# Altium integrated library National Semiconductor LDO.IntLib: 2675 symbols (part 62 of 65)
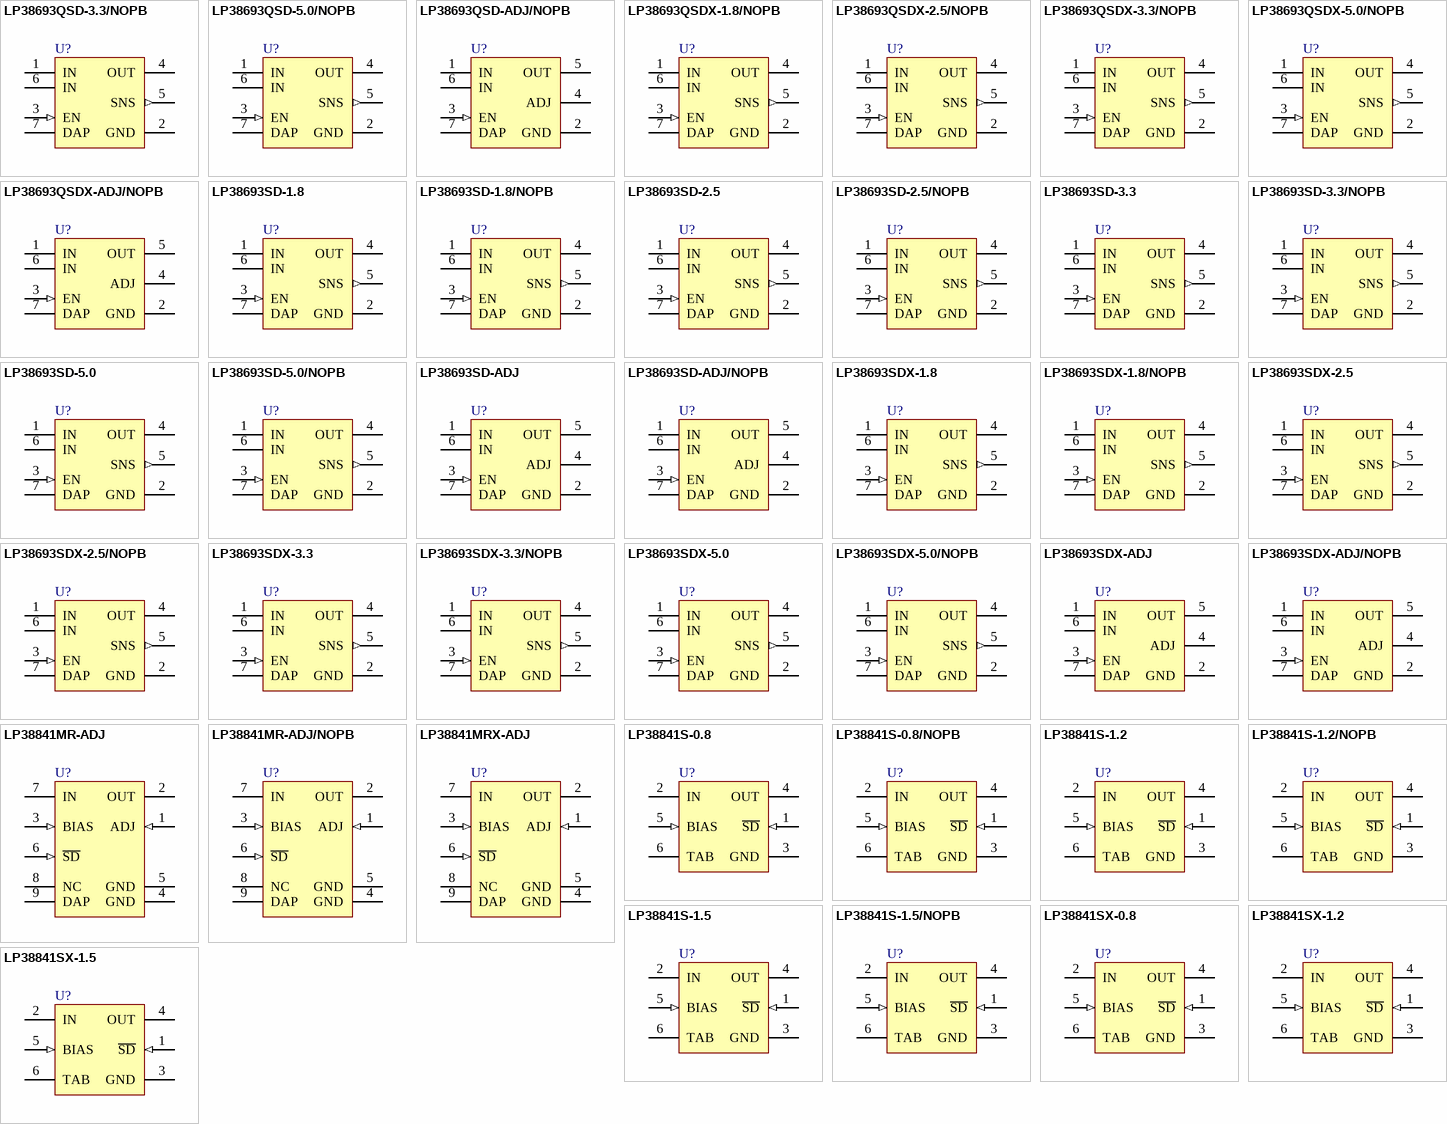
[diagram p128: symbols LP38693QSD-3.3/NOPB to LP38841SX-1.5]

## LP38841MR-ADJ
designator U?
0.8A Ultra Low Dropout Linear Regulators, 8-pin PSOP; PartNumber: LP38841MR-ADJ; Manufacturer: National Semiconductor; PackageTopMarking: NSXYTT*L38841*MRADJ; PowerWise: N; CompType: LDO IC; High-Reliability: Y; DatasheetVersion: Dec-2006; PackageVersion: revB, Dec-2007; PackageReference: MRA08B; PackageDescription: Molded, PSOP .193 x .154 x .058in, 8 Lead, .050in Pitch, Large DAP; RoHS: N; PinCount: 8; Code_JEDEC: MS-012-AA; ComponentLink1Description: Manufacturer URL; ComponentLink1URL: http://www.national.com/; ComponentLink2Description: LP38841 Datasheet; ComponentLink2URL: http://www.national.com/ds/LP/LP38841-ADJ.pdf; ComponentLink3Description: LP38841 Web Page; ComponentLink3URL: http://www.national.com/pf/LP/LP38841.html; ComponentLink4Description: MRA08B Package Page; ComponentLink4URL: http://www.national.com/packaging/folders/mra08b.html
footprint MRA08B_N (SOIC, 8-Leads, Body 4.9x3.9mm, Pitch 1.27mm, Thermal Pad, IPC Medium Density)
footprint MRA08B_L (SOIC, 8-Leads, Body 4.9x3.9mm, Pitch 1.27mm, Thermal Pad, IPC High Density)
footprint MRA08B_M (SOIC, 8-Leads, Body 4.9x3.9mm, Pitch 1.27mm, Thermal Pad, IPC Low Density)
pins: 1 ADJ (in), 2 OUT (power), 3 BIAS (in), 4 GND (power), 5 GND (power), 6 ~{SD} (in), 7 IN (power), 8 NC, 9 DAP (power)

## LP38841MR-ADJ/NOPB
designator U?
0.8A Fast-Response Ultra Low Dropout Adjustable Linear Regulators, 8-pin PSOP, Pb-Free; PartNumber: LP38841MR-ADJ/NOPB; Manufacturer: National Semiconductor; PackageTopMarking: NSXYTT*L38841*MRADJ; PowerWise: N; CompType: LDO IC; High-Reliability: Y; DatasheetVersion: Dec-2006; PackageVersion: revB, Dec-2007; PackageReference: MRA08B; PackageDescription: Molded, PSOP .193 x .154 x .058in, 8 Lead, .050in Pitch, Large DAP; RoHS: Y; PinCount: 8; Code_JEDEC: MS-012-AA; ComponentLink1Description: Manufacturer URL; ComponentLink1URL: http://www.national.com/; ComponentLink2Description: LP38841 Datasheet; ComponentLink2URL: http://www.national.com/ds/LP/LP38841-ADJ.pdf; ComponentLink3Description: LP38841 Web Page; ComponentLink3URL: http://www.national.com/pf/LP/LP38841.html; ComponentLink4Description: MRA08B Package Page; ComponentLink4URL: http://www.national.com/packaging/folders/mra08b.html
footprint MRA08B_N (SOIC, 8-Leads, Body 4.9x3.9mm, Pitch 1.27mm, Thermal Pad, IPC Medium Density)
footprint MRA08B_L (SOIC, 8-Leads, Body 4.9x3.9mm, Pitch 1.27mm, Thermal Pad, IPC High Density)
footprint MRA08B_M (SOIC, 8-Leads, Body 4.9x3.9mm, Pitch 1.27mm, Thermal Pad, IPC Low Density)
pins: 1 ADJ (in), 2 OUT (power), 3 BIAS (in), 4 GND (power), 5 GND (power), 6 ~{SD} (in), 7 IN (power), 8 NC, 9 DAP (power)

## LP38841MRX-ADJ
designator U?
0.8A Fast-Response Ultra Low Dropout Adjustable Linear Regulators, 8-pin PSOP; PartNumber: LP38841MRX-ADJ; Manufacturer: National Semiconductor; PackageTopMarking: NSXYTT*L38841*MRADJ; PowerWise: N; CompType: LDO IC; High-Reliability: Y; DatasheetVersion: Dec-2006; PackageVersion: revB, Dec-2007; PackageReference: MRA08B; PackageDescription: Molded, PSOP .193 x .154 x .058in, 8 Lead, .050in Pitch, Large DAP; RoHS: N; PinCount: 8; Code_JEDEC: MS-012-AA; ComponentLink1Description: Manufacturer URL; ComponentLink1URL: http://www.national.com/; ComponentLink2Description: LP38841 Datasheet; ComponentLink2URL: http://www.national.com/ds/LP/LP38841-ADJ.pdf; ComponentLink3Description: LP38841 Web Page; ComponentLink3URL: http://www.national.com/pf/LP/LP38841.html; ComponentLink4Description: MRA08B Package Page; ComponentLink4URL: http://www.national.com/packaging/folders/mra08b.html
footprint MRA08B_N (SOIC, 8-Leads, Body 4.9x3.9mm, Pitch 1.27mm, Thermal Pad, IPC Medium Density)
footprint MRA08B_L (SOIC, 8-Leads, Body 4.9x3.9mm, Pitch 1.27mm, Thermal Pad, IPC High Density)
footprint MRA08B_M (SOIC, 8-Leads, Body 4.9x3.9mm, Pitch 1.27mm, Thermal Pad, IPC Low Density)
pins: 1 ADJ (in), 2 OUT (power), 3 BIAS (in), 4 GND (power), 5 GND (power), 6 ~{SD} (in), 7 IN (power), 8 NC, 9 DAP (power)

## LP38841S-0.8
designator U?
0.8A Ultra Low Dropout Linear Regulators, 5-pin TO-263; PartNumber: LP38841S-0.8; Manufacturer: National Semiconductor; PackageTopMarking: NSUZXYTTE#*LP38841S*-0.8; PowerWise: N; CompType: LDO IC; High-Reliability: Y; DatasheetVersion: Sep-2006; PackageVersion: revD, Apr-2005; PackageReference: TS5B; PackageDescription: TO-263, Molded, .400 x .390 x .180in, 5 Lead, .067in Pitch, Surface Mount; RoHS: N; PinCount: 5; Code_JEDEC: MO-169-AB; ComponentLink1Description: Manufacturer URL; ComponentLink1URL: http://www.national.com/; ComponentLink2Description: LP38841 Datasheet; ComponentLink2URL: http://www.national.com/ds/LP/LP38841.pdf; ComponentLink3Description: LP38841 Web Page; ComponentLink3URL: http://www.national.com/pf/LP/LP38841.html; ComponentLink4Description: TS5B Package Page; ComponentLink4URL: http://www.national.com/packaging/folders/ts5b.html
footprint TS5B_N (D2-PAK, 6-Leads, Body 8.6x10.2mm, Pitch 1.7mm, Lead Span 14.1mm, IPC Medium Density)
footprint TS5B_L (D2-PAK, 6-Leads, Body 8.6x10.2mm, Pitch 1.7mm, Lead Span 14.1mm, IPC High Density)
footprint TS5B_M (D2-PAK, 6-Leads, Body 8.6x10.2mm, Pitch 1.7mm, Lead Span 14.1mm, IPC Low Density)
pins: 1 ~{SD} (in), 2 IN (power), 3 GND (power), 4 OUT (power), 5 BIAS (in), 6 TAB (power)

## LP38841S-0.8/NOPB
designator U?
0.8A Ultra Low Dropout Linear Regulators, 5-pin TO-263, Pb-Free; PartNumber: LP38841S-0.8/NOPB; Manufacturer: National Semiconductor; PackageTopMarking: NSUZXYTTE#*LP38841S*-0.8; PowerWise: N; CompType: LDO IC; High-Reliability: Y; DatasheetVersion: Sep-2006; PackageVersion: revD, Apr-2005; PackageReference: TS5B; PackageDescription: TO-263, Molded, .400 x .390 x .180in, 5 Lead, .067in Pitch, Surface Mount; RoHS: Y; PinCount: 5; Code_JEDEC: MO-169-AB; ComponentLink1Description: Manufacturer URL; ComponentLink1URL: http://www.national.com/; ComponentLink2Description: LP38841 Datasheet; ComponentLink2URL: http://www.national.com/ds/LP/LP38841.pdf; ComponentLink3Description: LP38841 Web Page; ComponentLink3URL: http://www.national.com/pf/LP/LP38841.html; ComponentLink4Description: TS5B Package Page; ComponentLink4URL: http://www.national.com/packaging/folders/ts5b.html
footprint TS5B_N (D2-PAK, 6-Leads, Body 8.6x10.2mm, Pitch 1.7mm, Lead Span 14.1mm, IPC Medium Density)
footprint TS5B_L (D2-PAK, 6-Leads, Body 8.6x10.2mm, Pitch 1.7mm, Lead Span 14.1mm, IPC High Density)
footprint TS5B_M (D2-PAK, 6-Leads, Body 8.6x10.2mm, Pitch 1.7mm, Lead Span 14.1mm, IPC Low Density)
pins: 1 ~{SD} (in), 2 IN (power), 3 GND (power), 4 OUT (power), 5 BIAS (in), 6 TAB (power)

## LP38841S-1.2
designator U?
0.8A Ultra Low Dropout Linear Regulators, 5-pin TO-263; PartNumber: LP38841S-1.2; Manufacturer: National Semiconductor; PackageTopMarking: NSUZXYTTE#*LP38841S*-1.2; PowerWise: N; CompType: LDO IC; High-Reliability: Y; DatasheetVersion: Sep-2006; PackageVersion: revD, Apr-2005; PackageReference: TS5B; PackageDescription: TO-263, Molded, .400 x .390 x .180in, 5 Lead, .067in Pitch, Surface Mount; RoHS: N; PinCount: 5; Code_JEDEC: MO-169-AB; ComponentLink1Description: Manufacturer URL; ComponentLink1URL: http://www.national.com/; ComponentLink2Description: LP38841 Datasheet; ComponentLink2URL: http://www.national.com/ds/LP/LP38841.pdf; ComponentLink3Description: LP38841 Web Page; ComponentLink3URL: http://www.national.com/pf/LP/LP38841.html; ComponentLink4Description: TS5B Package Page; ComponentLink4URL: http://www.national.com/packaging/folders/ts5b.html
footprint TS5B_N (D2-PAK, 6-Leads, Body 8.6x10.2mm, Pitch 1.7mm, Lead Span 14.1mm, IPC Medium Density)
footprint TS5B_L (D2-PAK, 6-Leads, Body 8.6x10.2mm, Pitch 1.7mm, Lead Span 14.1mm, IPC High Density)
footprint TS5B_M (D2-PAK, 6-Leads, Body 8.6x10.2mm, Pitch 1.7mm, Lead Span 14.1mm, IPC Low Density)
pins: 1 ~{SD} (in), 2 IN (power), 3 GND (power), 4 OUT (power), 5 BIAS (in), 6 TAB (power)

## LP38841S-1.2/NOPB
designator U?
0.8A Ultra Low Dropout Linear Regulators, 5-pin TO-263, Pb-Free; PartNumber: LP38841S-1.2/NOPB; Manufacturer: National Semiconductor; PackageTopMarking: NSUZXYTTE#*LP38841S*-1.2; PowerWise: N; CompType: LDO IC; High-Reliability: Y; DatasheetVersion: Sep-2006; PackageVersion: revD, Apr-2005; PackageReference: TS5B; PackageDescription: TO-263, Molded, .400 x .390 x .180in, 5 Lead, .067in Pitch, Surface Mount; RoHS: Y; PinCount: 5; Code_JEDEC: MO-169-AB; ComponentLink1Description: Manufacturer URL; ComponentLink1URL: http://www.national.com/; ComponentLink2Description: LP38841 Datasheet; ComponentLink2URL: http://www.national.com/ds/LP/LP38841.pdf; ComponentLink3Description: LP38841 Web Page; ComponentLink3URL: http://www.national.com/pf/LP/LP38841.html; ComponentLink4Description: TS5B Package Page; ComponentLink4URL: http://www.national.com/packaging/folders/ts5b.html
footprint TS5B_N (D2-PAK, 6-Leads, Body 8.6x10.2mm, Pitch 1.7mm, Lead Span 14.1mm, IPC Medium Density)
footprint TS5B_L (D2-PAK, 6-Leads, Body 8.6x10.2mm, Pitch 1.7mm, Lead Span 14.1mm, IPC High Density)
footprint TS5B_M (D2-PAK, 6-Leads, Body 8.6x10.2mm, Pitch 1.7mm, Lead Span 14.1mm, IPC Low Density)
pins: 1 ~{SD} (in), 2 IN (power), 3 GND (power), 4 OUT (power), 5 BIAS (in), 6 TAB (power)

## LP38841S-1.5
designator U?
0.8A Ultra Low Dropout Linear Regulators, 5-pin TO-263; PartNumber: LP38841S-1.5; Manufacturer: National Semiconductor; PackageTopMarking: NSUZXYTTE#*LP38841S*-1.5; PowerWise: N; CompType: LDO IC; High-Reliability: Y; DatasheetVersion: Sep-2006; PackageVersion: revD, Apr-2005; PackageReference: TS5B; PackageDescription: TO-263, Molded, .400 x .390 x .180in, 5 Lead, .067in Pitch, Surface Mount; RoHS: N; PinCount: 5; Code_JEDEC: MO-169-AB; ComponentLink1Description: Manufacturer URL; ComponentLink1URL: http://www.national.com/; ComponentLink2Description: LP38841 Datasheet; ComponentLink2URL: http://www.national.com/ds/LP/LP38841.pdf; ComponentLink3Description: LP38841 Web Page; ComponentLink3URL: http://www.national.com/pf/LP/LP38841.html; ComponentLink4Description: TS5B Package Page; ComponentLink4URL: http://www.national.com/packaging/folders/ts5b.html
footprint TS5B_N (D2-PAK, 6-Leads, Body 8.6x10.2mm, Pitch 1.7mm, Lead Span 14.1mm, IPC Medium Density)
footprint TS5B_L (D2-PAK, 6-Leads, Body 8.6x10.2mm, Pitch 1.7mm, Lead Span 14.1mm, IPC High Density)
footprint TS5B_M (D2-PAK, 6-Leads, Body 8.6x10.2mm, Pitch 1.7mm, Lead Span 14.1mm, IPC Low Density)
pins: 1 ~{SD} (in), 2 IN (power), 3 GND (power), 4 OUT (power), 5 BIAS (in), 6 TAB (power)

## LP38841S-1.5/NOPB
designator U?
0.8A Ultra Low Dropout Linear Regulators, 5-pin TO-263, Pb-Free; PartNumber: LP38841S-1.5/NOPB; Manufacturer: National Semiconductor; PackageTopMarking: NSUZXYTTE#*LP38841S*-1.5; PowerWise: N; CompType: LDO IC; High-Reliability: Y; DatasheetVersion: Sep-2006; PackageVersion: revD, Apr-2005; PackageReference: TS5B; PackageDescription: TO-263, Molded, .400 x .390 x .180in, 5 Lead, .067in Pitch, Surface Mount; RoHS: Y; PinCount: 5; Code_JEDEC: MO-169-AB; ComponentLink1Description: Manufacturer URL; ComponentLink1URL: http://www.national.com/; ComponentLink2Description: LP38841 Datasheet; ComponentLink2URL: http://www.national.com/ds/LP/LP38841.pdf; ComponentLink3Description: LP38841 Web Page; ComponentLink3URL: http://www.national.com/pf/LP/LP38841.html; ComponentLink4Description: TS5B Package Page; ComponentLink4URL: http://www.national.com/packaging/folders/ts5b.html
footprint TS5B_N (D2-PAK, 6-Leads, Body 8.6x10.2mm, Pitch 1.7mm, Lead Span 14.1mm, IPC Medium Density)
footprint TS5B_L (D2-PAK, 6-Leads, Body 8.6x10.2mm, Pitch 1.7mm, Lead Span 14.1mm, IPC High Density)
footprint TS5B_M (D2-PAK, 6-Leads, Body 8.6x10.2mm, Pitch 1.7mm, Lead Span 14.1mm, IPC Low Density)
pins: 1 ~{SD} (in), 2 IN (power), 3 GND (power), 4 OUT (power), 5 BIAS (in), 6 TAB (power)

## LP38841SX-0.8
designator U?
0.8A Ultra Low Dropout Linear Regulators, 5-pin TO-263; PartNumber: LP38841SX-0.8; Manufacturer: National Semiconductor; PackageTopMarking: NSUZXYTTE#*LP38841S*-0.8; PowerWise: N; CompType: LDO IC; High-Reliability: Y; DatasheetVersion: Sep-2006; PackageVersion: revD, Apr-2005; PackageReference: TS5B; PackageDescription: TO-263, Molded, .400 x .390 x .180in, 5 Lead, .067in Pitch, Surface Mount; RoHS: N; PinCount: 5; Code_JEDEC: MO-169-AB; ComponentLink1Description: Manufacturer URL; ComponentLink1URL: http://www.national.com/; ComponentLink2Description: LP38841 Datasheet; ComponentLink2URL: http://www.national.com/ds/LP/LP38841.pdf; ComponentLink3Description: LP38841 Web Page; ComponentLink3URL: http://www.national.com/pf/LP/LP38841.html; ComponentLink4Description: TS5B Package Page; ComponentLink4URL: http://www.national.com/packaging/folders/ts5b.html
footprint TS5B_N (D2-PAK, 6-Leads, Body 8.6x10.2mm, Pitch 1.7mm, Lead Span 14.1mm, IPC Medium Density)
footprint TS5B_L (D2-PAK, 6-Leads, Body 8.6x10.2mm, Pitch 1.7mm, Lead Span 14.1mm, IPC High Density)
footprint TS5B_M (D2-PAK, 6-Leads, Body 8.6x10.2mm, Pitch 1.7mm, Lead Span 14.1mm, IPC Low Density)
pins: 1 ~{SD} (in), 2 IN (power), 3 GND (power), 4 OUT (power), 5 BIAS (in), 6 TAB (power)

## LP38841SX-1.2
designator U?
0.8A Ultra Low Dropout Linear Regulators, 5-pin TO-263; PartNumber: LP38841SX-1.2; Manufacturer: National Semiconductor; PackageTopMarking: NSUZXYTTE#*LP38841S*-1.2; PowerWise: N; CompType: LDO IC; High-Reliability: Y; DatasheetVersion: Sep-2006; PackageVersion: revD, Apr-2005; PackageReference: TS5B; PackageDescription: TO-263, Molded, .400 x .390 x .180in, 5 Lead, .067in Pitch, Surface Mount; RoHS: N; PinCount: 5; Code_JEDEC: MO-169-AB; ComponentLink1Description: Manufacturer URL; ComponentLink1URL: http://www.national.com/; ComponentLink2Description: LP38841 Datasheet; ComponentLink2URL: http://www.national.com/ds/LP/LP38841.pdf; ComponentLink3Description: LP38841 Web Page; ComponentLink3URL: http://www.national.com/pf/LP/LP38841.html; ComponentLink4Description: TS5B Package Page; ComponentLink4URL: http://www.national.com/packaging/folders/ts5b.html
footprint TS5B_N (D2-PAK, 6-Leads, Body 8.6x10.2mm, Pitch 1.7mm, Lead Span 14.1mm, IPC Medium Density)
footprint TS5B_L (D2-PAK, 6-Leads, Body 8.6x10.2mm, Pitch 1.7mm, Lead Span 14.1mm, IPC High Density)
footprint TS5B_M (D2-PAK, 6-Leads, Body 8.6x10.2mm, Pitch 1.7mm, Lead Span 14.1mm, IPC Low Density)
pins: 1 ~{SD} (in), 2 IN (power), 3 GND (power), 4 OUT (power), 5 BIAS (in), 6 TAB (power)

## LP38841SX-1.5
designator U?
0.8A Ultra Low Dropout Linear Regulators, 5-pin TO-263; PartNumber: LP38841SX-1.5; Manufacturer: National Semiconductor; PackageTopMarking: NSUZXYTTE#*LP38841S*-1.5; PowerWise: N; CompType: LDO IC; High-Reliability: Y; DatasheetVersion: Sep-2006; PackageVersion: revD, Apr-2005; PackageReference: TS5B; PackageDescription: TO-263, Molded, .400 x .390 x .180in, 5 Lead, .067in Pitch, Surface Mount; RoHS: N; PinCount: 5; Code_JEDEC: MO-169-AB; ComponentLink1Description: Manufacturer URL; ComponentLink1URL: http://www.national.com/; ComponentLink2Description: LP38841 Datasheet; ComponentLink2URL: http://www.national.com/ds/LP/LP38841.pdf; ComponentLink3Description: LP38841 Web Page; ComponentLink3URL: http://www.national.com/pf/LP/LP38841.html; ComponentLink4Description: TS5B Package Page; ComponentLink4URL: http://www.national.com/packaging/folders/ts5b.html
footprint TS5B_N (D2-PAK, 6-Leads, Body 8.6x10.2mm, Pitch 1.7mm, Lead Span 14.1mm, IPC Medium Density)
footprint TS5B_L (D2-PAK, 6-Leads, Body 8.6x10.2mm, Pitch 1.7mm, Lead Span 14.1mm, IPC High Density)
footprint TS5B_M (D2-PAK, 6-Leads, Body 8.6x10.2mm, Pitch 1.7mm, Lead Span 14.1mm, IPC Low Density)
pins: 1 ~{SD} (in), 2 IN (power), 3 GND (power), 4 OUT (power), 5 BIAS (in), 6 TAB (power)

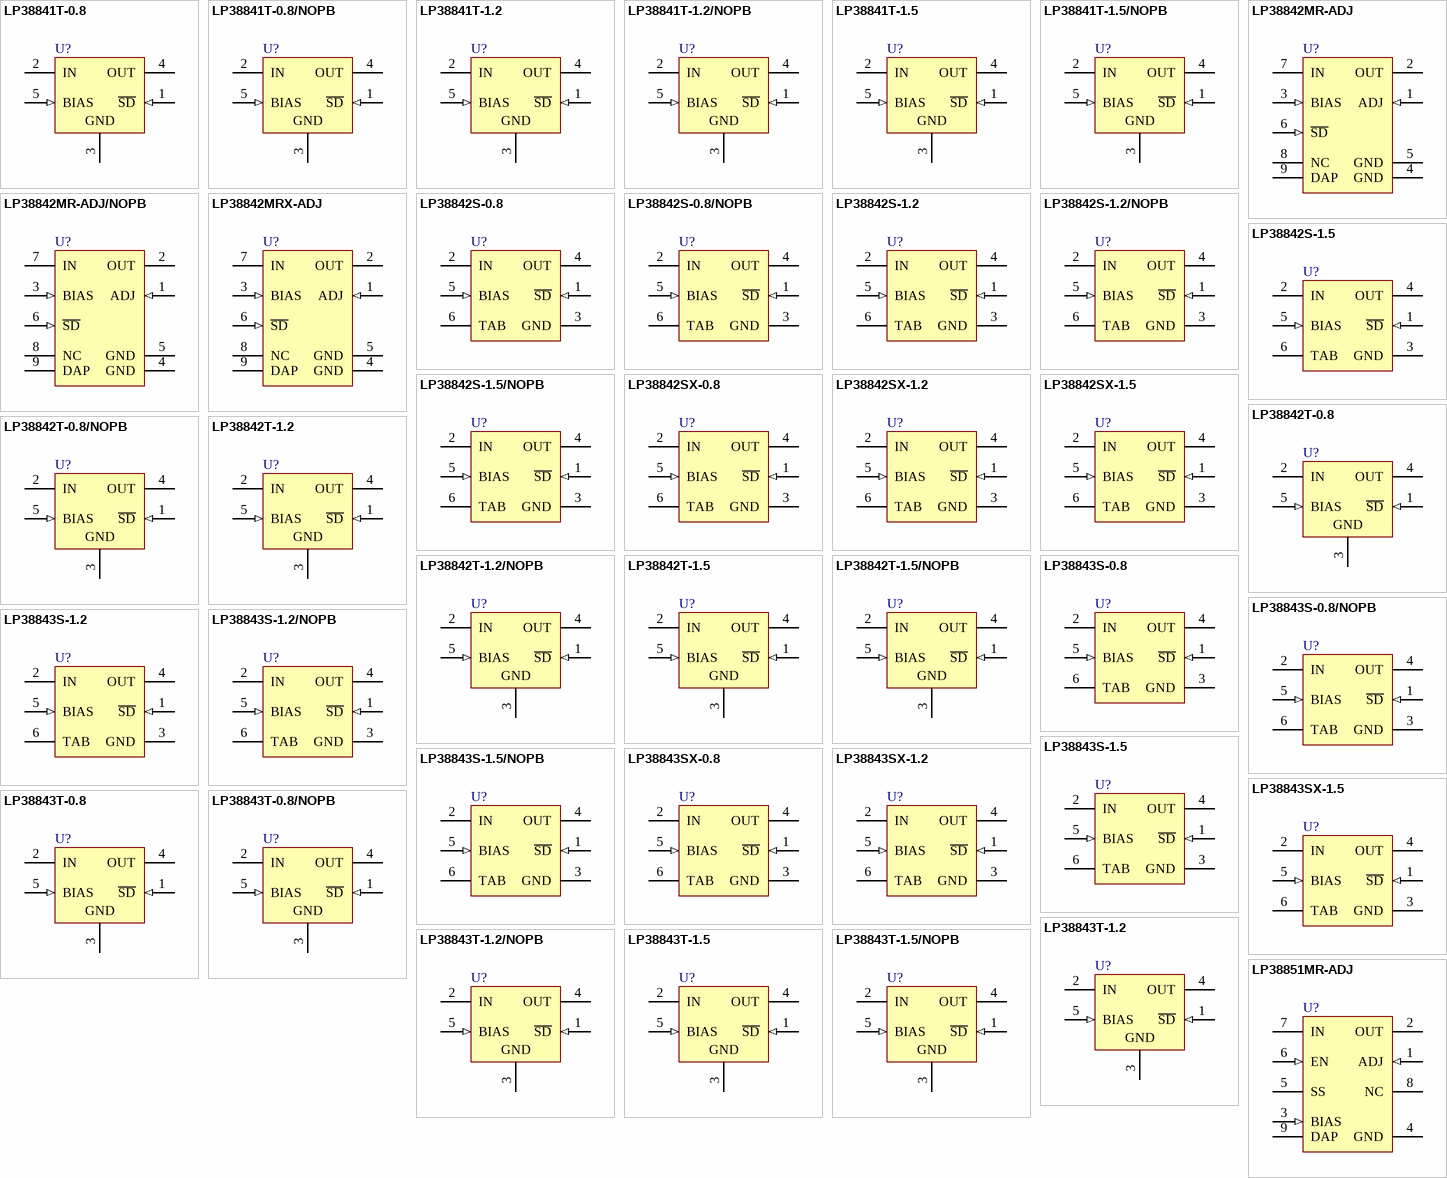
[diagram p64: symbols LP38841T-0.8 to LP38851MR-ADJ]

## LP38841T-0.8
designator U?
0.8A Ultra Low Dropout Linear Regulators, 5-pin TO-220; PartNumber: LP38841T-0.8; Manufacturer: National Semiconductor; PackageTopMarking: NSUZXYTTE#*LP38841T*-0.8; PowerWise: N; CompType: LDO IC; High-Reliability: Y; DatasheetVersion: Sep-2006; PackageVersion: revJ, Jan-1992; PackageReference: T05A; PackageDescription: TO-220, Molded, 5 Lead, Straight; RoHS: N; PinCount: 5; Code_JEDEC: TO-220-AB; ComponentLink1Description: Manufacturer URL; ComponentLink1URL: http://www.national.com/; ComponentLink2Description: LP38841 Datasheet; ComponentLink2URL: http://www.national.com/ds/LP/LP38841.pdf; ComponentLink3Description: LP38841 Web Page; ComponentLink3URL: http://www.national.com/pf/LP/LP38841.html; ComponentLink4Description: T05A Package Page; ComponentLink4URL: http://www.national.com/packaging/folders/t05a.html
footprint T05A (TO, Thru-Hole, Vertical, Heatsink Mounted; 5 In-Line Leads; Pitch 1.70 mm)
pins: 1 ~{SD} (in), 2 IN (power), 3 GND (power), 4 OUT (power), 5 BIAS (in)

## LP38841T-0.8/NOPB
designator U?
0.8A Ultra Low Dropout Linear Regulators, 5-pin TO-220, Pb-Free; PartNumber: LP38841T-0.8/NOPB; Manufacturer: National Semiconductor; PackageTopMarking: NSUZXYTTE#*LP38841T*-0.8; PowerWise: N; CompType: LDO IC; High-Reliability: Y; DatasheetVersion: Sep-2006; PackageVersion: revJ, Jan-1992; PackageReference: T05A; PackageDescription: TO-220, Molded, 5 Lead, Straight; RoHS: Y; PinCount: 5; Code_JEDEC: TO-220-AB; ComponentLink1Description: Manufacturer URL; ComponentLink1URL: http://www.national.com/; ComponentLink2Description: LP38841 Datasheet; ComponentLink2URL: http://www.national.com/ds/LP/LP38841.pdf; ComponentLink3Description: LP38841 Web Page; ComponentLink3URL: http://www.national.com/pf/LP/LP38841.html; ComponentLink4Description: T05A Package Page; ComponentLink4URL: http://www.national.com/packaging/folders/t05a.html
footprint T05A (TO, Thru-Hole, Vertical, Heatsink Mounted; 5 In-Line Leads; Pitch 1.70 mm)
pins: 1 ~{SD} (in), 2 IN (power), 3 GND (power), 4 OUT (power), 5 BIAS (in)

## LP38841T-1.2
designator U?
0.8A Ultra Low Dropout Linear Regulators, 5-pin TO-220; PartNumber: LP38841T-1.2; Manufacturer: National Semiconductor; PackageTopMarking: NSUZXYTTE#*LP38841T*-1.2; PowerWise: N; CompType: LDO IC; High-Reliability: Y; DatasheetVersion: Sep-2006; PackageVersion: revJ, Jan-1992; PackageReference: T05A; PackageDescription: TO-220, Molded, 5 Lead, Straight; RoHS: N; PinCount: 5; Code_JEDEC: TO-220-AB; ComponentLink1Description: Manufacturer URL; ComponentLink1URL: http://www.national.com/; ComponentLink2Description: LP38841 Datasheet; ComponentLink2URL: http://www.national.com/ds/LP/LP38841.pdf; ComponentLink3Description: LP38841 Web Page; ComponentLink3URL: http://www.national.com/pf/LP/LP38841.html; ComponentLink4Description: T05A Package Page; ComponentLink4URL: http://www.national.com/packaging/folders/t05a.html
footprint T05A (TO, Thru-Hole, Vertical, Heatsink Mounted; 5 In-Line Leads; Pitch 1.70 mm)
pins: 1 ~{SD} (in), 2 IN (power), 3 GND (power), 4 OUT (power), 5 BIAS (in)

## LP38841T-1.2/NOPB
designator U?
0.8A Ultra Low Dropout Linear Regulators, 5-pin TO-220, Pb-Free; PartNumber: LP38841T-1.2/NOPB; Manufacturer: National Semiconductor; PackageTopMarking: NSUZXYTTE#*LP38841T*-1.2; PowerWise: N; CompType: LDO IC; High-Reliability: Y; DatasheetVersion: Sep-2006; PackageVersion: revJ, Jan-1992; PackageReference: T05A; PackageDescription: TO-220, Molded, 5 Lead, Straight; RoHS: Y; PinCount: 5; Code_JEDEC: TO-220-AB; ComponentLink1Description: Manufacturer URL; ComponentLink1URL: http://www.national.com/; ComponentLink2Description: LP38841 Datasheet; ComponentLink2URL: http://www.national.com/ds/LP/LP38841.pdf; ComponentLink3Description: LP38841 Web Page; ComponentLink3URL: http://www.national.com/pf/LP/LP38841.html; ComponentLink4Description: T05A Package Page; ComponentLink4URL: http://www.national.com/packaging/folders/t05a.html
footprint T05A (TO, Thru-Hole, Vertical, Heatsink Mounted; 5 In-Line Leads; Pitch 1.70 mm)
pins: 1 ~{SD} (in), 2 IN (power), 3 GND (power), 4 OUT (power), 5 BIAS (in)

## LP38841T-1.5
designator U?
0.8A Ultra Low Dropout Linear Regulators, 5-pin TO-220; PartNumber: LP38841T-1.5; Manufacturer: National Semiconductor; PackageTopMarking: NSUZXYTTE#*LP38841T*-1.5; PowerWise: N; CompType: LDO IC; High-Reliability: Y; DatasheetVersion: Sep-2006; PackageVersion: revJ, Jan-1992; PackageReference: T05A; PackageDescription: TO-220, Molded, 5 Lead, Straight; RoHS: N; PinCount: 5; Code_JEDEC: TO-220-AB; ComponentLink1Description: Manufacturer URL; ComponentLink1URL: http://www.national.com/; ComponentLink2Description: LP38841 Datasheet; ComponentLink2URL: http://www.national.com/ds/LP/LP38841.pdf; ComponentLink3Description: LP38841 Web Page; ComponentLink3URL: http://www.national.com/pf/LP/LP38841.html; ComponentLink4Description: T05A Package Page; ComponentLink4URL: http://www.national.com/packaging/folders/t05a.html
footprint T05A (TO, Thru-Hole, Vertical, Heatsink Mounted; 5 In-Line Leads; Pitch 1.70 mm)
pins: 1 ~{SD} (in), 2 IN (power), 3 GND (power), 4 OUT (power), 5 BIAS (in)

## LP38841T-1.5/NOPB
designator U?
0.8A Ultra Low Dropout Linear Regulators, 5-pin TO-220, Pb-Free; PartNumber: LP38841T-1.5/NOPB; Manufacturer: National Semiconductor; PackageTopMarking: NSUZXYTTE#*LP38841T*-1.5; PowerWise: N; CompType: LDO IC; High-Reliability: Y; DatasheetVersion: Sep-2006; PackageVersion: revJ, Jan-1992; PackageReference: T05A; PackageDescription: TO-220, Molded, 5 Lead, Straight; RoHS: Y; PinCount: 5; Code_JEDEC: TO-220-AB; ComponentLink1Description: Manufacturer URL; ComponentLink1URL: http://www.national.com/; ComponentLink2Description: LP38841 Datasheet; ComponentLink2URL: http://www.national.com/ds/LP/LP38841.pdf; ComponentLink3Description: LP38841 Web Page; ComponentLink3URL: http://www.national.com/pf/LP/LP38841.html; ComponentLink4Description: T05A Package Page; ComponentLink4URL: http://www.national.com/packaging/folders/t05a.html
footprint T05A (TO, Thru-Hole, Vertical, Heatsink Mounted; 5 In-Line Leads; Pitch 1.70 mm)
pins: 1 ~{SD} (in), 2 IN (power), 3 GND (power), 4 OUT (power), 5 BIAS (in)

## LP38842MR-ADJ
designator U?
1.5A Ultra Low Dropout Linear Regulators, 8-pin PSOP; PartNumber: LP38842MR-ADJ; Manufacturer: National Semiconductor; PackageTopMarking: NSXYTT*L38842*MRADJ; PowerWise: N; CompType: LDO IC; High-Reliability: Y; DatasheetVersion: Feb-2005; PackageVersion: revB, Dec-2007; PackageReference: MRA08B; PackageDescription: Molded, PSOP .193 x .154 x .058in, 8 Lead, .050in Pitch, Large DAP; RoHS: N; PinCount: 8; Code_JEDEC: MS-012-AA; ComponentLink1Description: Manufacturer URL; ComponentLink1URL: http://www.national.com/; ComponentLink2Description: LP38842 Datasheet; ComponentLink2URL: http://www.national.com/ds/LP/LP38842-ADJ.pdf; ComponentLink3Description: LP38842 Web Page; ComponentLink3URL: http://www.national.com/pf/LP/LP38842.html; ComponentLink4Description: MRA08B Package Page; ComponentLink4URL: http://www.national.com/packaging/folders/mra08b.html
footprint MRA08B_N (SOIC, 8-Leads, Body 4.9x3.9mm, Pitch 1.27mm, Thermal Pad, IPC Medium Density)
footprint MRA08B_L (SOIC, 8-Leads, Body 4.9x3.9mm, Pitch 1.27mm, Thermal Pad, IPC High Density)
footprint MRA08B_M (SOIC, 8-Leads, Body 4.9x3.9mm, Pitch 1.27mm, Thermal Pad, IPC Low Density)
pins: 1 ADJ (in), 2 OUT (power), 3 BIAS (in), 4 GND (power), 5 GND (power), 6 ~{SD} (in), 7 IN (power), 8 NC, 9 DAP (power)

## LP38842MR-ADJ/NOPB
designator U?
1.5A Fast-Response Ultra Low Dropout Adjustable Linear Regulators, 8-pin PSOP, Pb-Free; PartNumber: LP38842MR-ADJ/NOPB; Manufacturer: National Semiconductor; PackageTopMarking: NSXYTT*L38842*MRADJ; PowerWise: N; CompType: LDO IC; High-Reliability: Y; DatasheetVersion: Feb-2005; PackageVersion: revB, Dec-2007; PackageReference: MRA08B; PackageDescription: Molded, PSOP .193 x .154 x .058in, 8 Lead, .050in Pitch, Large DAP; RoHS: Y; PinCount: 8; Code_JEDEC: MS-012-AA; ComponentLink1Description: Manufacturer URL; ComponentLink1URL: http://www.national.com/; ComponentLink2Description: LP38842 Datasheet; ComponentLink2URL: http://www.national.com/ds/LP/LP38842-ADJ.pdf; ComponentLink3Description: LP38842 Web Page; ComponentLink3URL: http://www.national.com/pf/LP/LP38842.html; ComponentLink4Description: MRA08B Package Page; ComponentLink4URL: http://www.national.com/packaging/folders/mra08b.html
footprint MRA08B_N (SOIC, 8-Leads, Body 4.9x3.9mm, Pitch 1.27mm, Thermal Pad, IPC Medium Density)
footprint MRA08B_L (SOIC, 8-Leads, Body 4.9x3.9mm, Pitch 1.27mm, Thermal Pad, IPC High Density)
footprint MRA08B_M (SOIC, 8-Leads, Body 4.9x3.9mm, Pitch 1.27mm, Thermal Pad, IPC Low Density)
pins: 1 ADJ (in), 2 OUT (power), 3 BIAS (in), 4 GND (power), 5 GND (power), 6 ~{SD} (in), 7 IN (power), 8 NC, 9 DAP (power)

## LP38842MRX-ADJ
designator U?
1.5A Fast-Response Ultra Low Dropout Adjustable Linear Regulators, 8-pin PSOP; PartNumber: LP38842MRX-ADJ; Manufacturer: National Semiconductor; PackageTopMarking: NSXYTT*L38842*MRADJ; PowerWise: N; CompType: LDO IC; High-Reliability: Y; DatasheetVersion: Feb-2005; PackageVersion: revB, Dec-2007; PackageReference: MRA08B; PackageDescription: Molded, PSOP .193 x .154 x .058in, 8 Lead, .050in Pitch, Large DAP; RoHS: N; PinCount: 8; Code_JEDEC: MS-012-AA; ComponentLink1Description: Manufacturer URL; ComponentLink1URL: http://www.national.com/; ComponentLink2Description: LP38842 Datasheet; ComponentLink2URL: http://www.national.com/ds/LP/LP38842-ADJ.pdf; ComponentLink3Description: LP38842 Web Page; ComponentLink3URL: http://www.national.com/pf/LP/LP38842.html; ComponentLink4Description: MRA08B Package Page; ComponentLink4URL: http://www.national.com/packaging/folders/mra08b.html
footprint MRA08B_N (SOIC, 8-Leads, Body 4.9x3.9mm, Pitch 1.27mm, Thermal Pad, IPC Medium Density)
footprint MRA08B_L (SOIC, 8-Leads, Body 4.9x3.9mm, Pitch 1.27mm, Thermal Pad, IPC High Density)
footprint MRA08B_M (SOIC, 8-Leads, Body 4.9x3.9mm, Pitch 1.27mm, Thermal Pad, IPC Low Density)
pins: 1 ADJ (in), 2 OUT (power), 3 BIAS (in), 4 GND (power), 5 GND (power), 6 ~{SD} (in), 7 IN (power), 8 NC, 9 DAP (power)

## LP38842S-0.8
designator U?
1.5A Ultra Low Dropout Linear Regulators, 5-pin TO-263; PartNumber: LP38842S-0.8; Manufacturer: National Semiconductor; PackageTopMarking: NSUZXYTTE#*LP38842S*-0.8; PowerWise: N; CompType: LDO IC; High-Reliability: Y; DatasheetVersion: Sep-2006; PackageVersion: revD, Apr-2005; PackageReference: TS5B; PackageDescription: TO-263, Molded, .400 x .390 x .180in, 5 Lead, .067in Pitch, Surface Mount; RoHS: N; PinCount: 5; Code_JEDEC: MO-169-AB; ComponentLink1Description: Manufacturer URL; ComponentLink1URL: http://www.national.com/; ComponentLink2Description: LP38842 Datasheet; ComponentLink2URL: http://www.national.com/ds/LP/LP38842.pdf; ComponentLink3Description: LP38842 Web Page; ComponentLink3URL: http://www.national.com/pf/LP/LP38842.html; ComponentLink4Description: TS5B Package Page; ComponentLink4URL: http://www.national.com/packaging/folders/ts5b.html
footprint TS5B_N (D2-PAK, 6-Leads, Body 8.6x10.2mm, Pitch 1.7mm, Lead Span 14.1mm, IPC Medium Density)
footprint TS5B_L (D2-PAK, 6-Leads, Body 8.6x10.2mm, Pitch 1.7mm, Lead Span 14.1mm, IPC High Density)
footprint TS5B_M (D2-PAK, 6-Leads, Body 8.6x10.2mm, Pitch 1.7mm, Lead Span 14.1mm, IPC Low Density)
pins: 1 ~{SD} (in), 2 IN (power), 3 GND (power), 4 OUT (power), 5 BIAS (in), 6 TAB (power)

## LP38842S-0.8/NOPB
designator U?
1.5A Ultra Low Dropout Linear Regulators, 5-pin TO-263, Pb-Free; PartNumber: LP38842S-0.8/NOPB; Manufacturer: National Semiconductor; PackageTopMarking: NSUZXYTTE#*LP38842S*-0.8; PowerWise: N; CompType: LDO IC; High-Reliability: Y; DatasheetVersion: Sep-2006; PackageVersion: revD, Apr-2005; PackageReference: TS5B; PackageDescription: TO-263, Molded, .400 x .390 x .180in, 5 Lead, .067in Pitch, Surface Mount; RoHS: Y; PinCount: 5; Code_JEDEC: MO-169-AB; ComponentLink1Description: Manufacturer URL; ComponentLink1URL: http://www.national.com/; ComponentLink2Description: LP38842 Datasheet; ComponentLink2URL: http://www.national.com/ds/LP/LP38842.pdf; ComponentLink3Description: LP38842 Web Page; ComponentLink3URL: http://www.national.com/pf/LP/LP38842.html; ComponentLink4Description: TS5B Package Page; ComponentLink4URL: http://www.national.com/packaging/folders/ts5b.html
footprint TS5B_N (D2-PAK, 6-Leads, Body 8.6x10.2mm, Pitch 1.7mm, Lead Span 14.1mm, IPC Medium Density)
footprint TS5B_L (D2-PAK, 6-Leads, Body 8.6x10.2mm, Pitch 1.7mm, Lead Span 14.1mm, IPC High Density)
footprint TS5B_M (D2-PAK, 6-Leads, Body 8.6x10.2mm, Pitch 1.7mm, Lead Span 14.1mm, IPC Low Density)
pins: 1 ~{SD} (in), 2 IN (power), 3 GND (power), 4 OUT (power), 5 BIAS (in), 6 TAB (power)

## LP38842S-1.2
designator U?
1.5A Ultra Low Dropout Linear Regulators, 5-pin TO-263; PartNumber: LP38842S-1.2; Manufacturer: National Semiconductor; PackageTopMarking: NSUZXYTTE#*LP38842S*-1.2; PowerWise: N; CompType: LDO IC; High-Reliability: Y; DatasheetVersion: Sep-2006; PackageVersion: revD, Apr-2005; PackageReference: TS5B; PackageDescription: TO-263, Molded, .400 x .390 x .180in, 5 Lead, .067in Pitch, Surface Mount; RoHS: N; PinCount: 5; Code_JEDEC: MO-169-AB; ComponentLink1Description: Manufacturer URL; ComponentLink1URL: http://www.national.com/; ComponentLink2Description: LP38842 Datasheet; ComponentLink2URL: http://www.national.com/ds/LP/LP38842.pdf; ComponentLink3Description: LP38842 Web Page; ComponentLink3URL: http://www.national.com/pf/LP/LP38842.html; ComponentLink4Description: TS5B Package Page; ComponentLink4URL: http://www.national.com/packaging/folders/ts5b.html
footprint TS5B_N (D2-PAK, 6-Leads, Body 8.6x10.2mm, Pitch 1.7mm, Lead Span 14.1mm, IPC Medium Density)
footprint TS5B_L (D2-PAK, 6-Leads, Body 8.6x10.2mm, Pitch 1.7mm, Lead Span 14.1mm, IPC High Density)
footprint TS5B_M (D2-PAK, 6-Leads, Body 8.6x10.2mm, Pitch 1.7mm, Lead Span 14.1mm, IPC Low Density)
pins: 1 ~{SD} (in), 2 IN (power), 3 GND (power), 4 OUT (power), 5 BIAS (in), 6 TAB (power)

## LP38842S-1.2/NOPB
designator U?
1.5A Ultra Low Dropout Linear Regulators, 5-pin TO-263, Pb-Free; PartNumber: LP38842S-1.2/NOPB; Manufacturer: National Semiconductor; PackageTopMarking: NSUZXYTTE#*LP38842S*-1.2; PowerWise: N; CompType: LDO IC; High-Reliability: Y; DatasheetVersion: Sep-2006; PackageVersion: revD, Apr-2005; PackageReference: TS5B; PackageDescription: TO-263, Molded, .400 x .390 x .180in, 5 Lead, .067in Pitch, Surface Mount; RoHS: Y; PinCount: 5; Code_JEDEC: MO-169-AB; ComponentLink1Description: Manufacturer URL; ComponentLink1URL: http://www.national.com/; ComponentLink2Description: LP38842 Datasheet; ComponentLink2URL: http://www.national.com/ds/LP/LP38842.pdf; ComponentLink3Description: LP38842 Web Page; ComponentLink3URL: http://www.national.com/pf/LP/LP38842.html; ComponentLink4Description: TS5B Package Page; ComponentLink4URL: http://www.national.com/packaging/folders/ts5b.html
footprint TS5B_N (D2-PAK, 6-Leads, Body 8.6x10.2mm, Pitch 1.7mm, Lead Span 14.1mm, IPC Medium Density)
footprint TS5B_L (D2-PAK, 6-Leads, Body 8.6x10.2mm, Pitch 1.7mm, Lead Span 14.1mm, IPC High Density)
footprint TS5B_M (D2-PAK, 6-Leads, Body 8.6x10.2mm, Pitch 1.7mm, Lead Span 14.1mm, IPC Low Density)
pins: 1 ~{SD} (in), 2 IN (power), 3 GND (power), 4 OUT (power), 5 BIAS (in), 6 TAB (power)

## LP38842S-1.5
designator U?
1.5A Ultra Low Dropout Linear Regulators, 5-pin TO-263; PartNumber: LP38842S-1.5; Manufacturer: National Semiconductor; PackageTopMarking: NSUZXYTTE#*LP38842S*-1.5; PowerWise: N; CompType: LDO IC; High-Reliability: Y; DatasheetVersion: Sep-2006; PackageVersion: revD, Apr-2005; PackageReference: TS5B; PackageDescription: TO-263, Molded, .400 x .390 x .180in, 5 Lead, .067in Pitch, Surface Mount; RoHS: N; PinCount: 5; Code_JEDEC: MO-169-AB; ComponentLink1Description: Manufacturer URL; ComponentLink1URL: http://www.national.com/; ComponentLink2Description: LP38842 Datasheet; ComponentLink2URL: http://www.national.com/ds/LP/LP38842.pdf; ComponentLink3Description: LP38842 Web Page; ComponentLink3URL: http://www.national.com/pf/LP/LP38842.html; ComponentLink4Description: TS5B Package Page; ComponentLink4URL: http://www.national.com/packaging/folders/ts5b.html
footprint TS5B_N (D2-PAK, 6-Leads, Body 8.6x10.2mm, Pitch 1.7mm, Lead Span 14.1mm, IPC Medium Density)
footprint TS5B_L (D2-PAK, 6-Leads, Body 8.6x10.2mm, Pitch 1.7mm, Lead Span 14.1mm, IPC High Density)
footprint TS5B_M (D2-PAK, 6-Leads, Body 8.6x10.2mm, Pitch 1.7mm, Lead Span 14.1mm, IPC Low Density)
pins: 1 ~{SD} (in), 2 IN (power), 3 GND (power), 4 OUT (power), 5 BIAS (in), 6 TAB (power)

## LP38842S-1.5/NOPB
designator U?
1.5A Ultra Low Dropout Linear Regulators, 5-pin TO-263, Pb-Free; PartNumber: LP38842S-1.5/NOPB; Manufacturer: National Semiconductor; PackageTopMarking: NSUZXYTTE#*LP38842S*-1.5; PowerWise: N; CompType: LDO IC; High-Reliability: Y; DatasheetVersion: Sep-2006; PackageVersion: revD, Apr-2005; PackageReference: TS5B; PackageDescription: TO-263, Molded, .400 x .390 x .180in, 5 Lead, .067in Pitch, Surface Mount; RoHS: Y; PinCount: 5; Code_JEDEC: MO-169-AB; ComponentLink1Description: Manufacturer URL; ComponentLink1URL: http://www.national.com/; ComponentLink2Description: LP38842 Datasheet; ComponentLink2URL: http://www.national.com/ds/LP/LP38842.pdf; ComponentLink3Description: LP38842 Web Page; ComponentLink3URL: http://www.national.com/pf/LP/LP38842.html; ComponentLink4Description: TS5B Package Page; ComponentLink4URL: http://www.national.com/packaging/folders/ts5b.html
footprint TS5B_N (D2-PAK, 6-Leads, Body 8.6x10.2mm, Pitch 1.7mm, Lead Span 14.1mm, IPC Medium Density)
footprint TS5B_L (D2-PAK, 6-Leads, Body 8.6x10.2mm, Pitch 1.7mm, Lead Span 14.1mm, IPC High Density)
footprint TS5B_M (D2-PAK, 6-Leads, Body 8.6x10.2mm, Pitch 1.7mm, Lead Span 14.1mm, IPC Low Density)
pins: 1 ~{SD} (in), 2 IN (power), 3 GND (power), 4 OUT (power), 5 BIAS (in), 6 TAB (power)

## LP38842SX-0.8
designator U?
1.5A Ultra Low Dropout Linear Regulators, 5-pin TO-263; PartNumber: LP38842SX-0.8; Manufacturer: National Semiconductor; PackageTopMarking: NSUZXYTTE#*LP38842S*-0.8; PowerWise: N; CompType: LDO IC; High-Reliability: Y; DatasheetVersion: Sep-2006; PackageVersion: revD, Apr-2005; PackageReference: TS5B; PackageDescription: TO-263, Molded, .400 x .390 x .180in, 5 Lead, .067in Pitch, Surface Mount; RoHS: N; PinCount: 5; Code_JEDEC: MO-169-AB; ComponentLink1Description: Manufacturer URL; ComponentLink1URL: http://www.national.com/; ComponentLink2Description: LP38842 Datasheet; ComponentLink2URL: http://www.national.com/ds/LP/LP38842.pdf; ComponentLink3Description: LP38842 Web Page; ComponentLink3URL: http://www.national.com/pf/LP/LP38842.html; ComponentLink4Description: TS5B Package Page; ComponentLink4URL: http://www.national.com/packaging/folders/ts5b.html
footprint TS5B_N (D2-PAK, 6-Leads, Body 8.6x10.2mm, Pitch 1.7mm, Lead Span 14.1mm, IPC Medium Density)
footprint TS5B_L (D2-PAK, 6-Leads, Body 8.6x10.2mm, Pitch 1.7mm, Lead Span 14.1mm, IPC High Density)
footprint TS5B_M (D2-PAK, 6-Leads, Body 8.6x10.2mm, Pitch 1.7mm, Lead Span 14.1mm, IPC Low Density)
pins: 1 ~{SD} (in), 2 IN (power), 3 GND (power), 4 OUT (power), 5 BIAS (in), 6 TAB (power)

## LP38842SX-1.2
designator U?
1.5A Ultra Low Dropout Linear Regulators, 5-pin TO-263; PartNumber: LP38842SX-1.2; Manufacturer: National Semiconductor; PackageTopMarking: NSUZXYTTE#*LP38842S*-1.2; PowerWise: N; CompType: LDO IC; High-Reliability: Y; DatasheetVersion: Sep-2006; PackageVersion: revD, Apr-2005; PackageReference: TS5B; PackageDescription: TO-263, Molded, .400 x .390 x .180in, 5 Lead, .067in Pitch, Surface Mount; RoHS: N; PinCount: 5; Code_JEDEC: MO-169-AB; ComponentLink1Description: Manufacturer URL; ComponentLink1URL: http://www.national.com/; ComponentLink2Description: LP38842 Datasheet; ComponentLink2URL: http://www.national.com/ds/LP/LP38842.pdf; ComponentLink3Description: LP38842 Web Page; ComponentLink3URL: http://www.national.com/pf/LP/LP38842.html; ComponentLink4Description: TS5B Package Page; ComponentLink4URL: http://www.national.com/packaging/folders/ts5b.html
footprint TS5B_N (D2-PAK, 6-Leads, Body 8.6x10.2mm, Pitch 1.7mm, Lead Span 14.1mm, IPC Medium Density)
footprint TS5B_L (D2-PAK, 6-Leads, Body 8.6x10.2mm, Pitch 1.7mm, Lead Span 14.1mm, IPC High Density)
footprint TS5B_M (D2-PAK, 6-Leads, Body 8.6x10.2mm, Pitch 1.7mm, Lead Span 14.1mm, IPC Low Density)
pins: 1 ~{SD} (in), 2 IN (power), 3 GND (power), 4 OUT (power), 5 BIAS (in), 6 TAB (power)

## LP38842SX-1.5
designator U?
1.5A Ultra Low Dropout Linear Regulators, 5-pin TO-263; PartNumber: LP38842SX-1.5; Manufacturer: National Semiconductor; PackageTopMarking: NSUZXYTTE#*LP38842S*-1.5; PowerWise: N; CompType: LDO IC; High-Reliability: Y; DatasheetVersion: Sep-2006; PackageVersion: revD, Apr-2005; PackageReference: TS5B; PackageDescription: TO-263, Molded, .400 x .390 x .180in, 5 Lead, .067in Pitch, Surface Mount; RoHS: N; PinCount: 5; Code_JEDEC: MO-169-AB; ComponentLink1Description: Manufacturer URL; ComponentLink1URL: http://www.national.com/; ComponentLink2Description: LP38842 Datasheet; ComponentLink2URL: http://www.national.com/ds/LP/LP38842.pdf; ComponentLink3Description: LP38842 Web Page; ComponentLink3URL: http://www.national.com/pf/LP/LP38842.html; ComponentLink4Description: TS5B Package Page; ComponentLink4URL: http://www.national.com/packaging/folders/ts5b.html
footprint TS5B_N (D2-PAK, 6-Leads, Body 8.6x10.2mm, Pitch 1.7mm, Lead Span 14.1mm, IPC Medium Density)
footprint TS5B_L (D2-PAK, 6-Leads, Body 8.6x10.2mm, Pitch 1.7mm, Lead Span 14.1mm, IPC High Density)
footprint TS5B_M (D2-PAK, 6-Leads, Body 8.6x10.2mm, Pitch 1.7mm, Lead Span 14.1mm, IPC Low Density)
pins: 1 ~{SD} (in), 2 IN (power), 3 GND (power), 4 OUT (power), 5 BIAS (in), 6 TAB (power)

## LP38842T-0.8
designator U?
1.5A Ultra Low Dropout Linear Regulators, 5-pin TO-220; PartNumber: LP38842T-0.8; Manufacturer: National Semiconductor; PackageTopMarking: NSUZXYTTE#*LP38842T*-0.8; PowerWise: N; CompType: LDO IC; High-Reliability: Y; DatasheetVersion: Sep-2006; PackageVersion: revJ, Jan-1992; PackageReference: T05A; PackageDescription: TO-220, Molded, 5 Lead, Straight; RoHS: N; PinCount: 5; Code_JEDEC: TO-220-AB; ComponentLink1Description: Manufacturer URL; ComponentLink1URL: http://www.national.com/; ComponentLink2Description: LP38842 Datasheet; ComponentLink2URL: http://www.national.com/ds/LP/LP38842.pdf; ComponentLink3Description: LP38842 Web Page; ComponentLink3URL: http://www.national.com/pf/LP/LP38842.html; ComponentLink4Description: T05A Package Page; ComponentLink4URL: http://www.national.com/packaging/folders/t05a.html
footprint T05A (TO, Thru-Hole, Vertical, Heatsink Mounted; 5 In-Line Leads; Pitch 1.70 mm)
pins: 1 ~{SD} (in), 2 IN (power), 3 GND (power), 4 OUT (power), 5 BIAS (in)

## LP38842T-0.8/NOPB
designator U?
1.5A Ultra Low Dropout Linear Regulators, 5-pin TO-220, Pb-Free; PartNumber: LP38842T-0.8/NOPB; Manufacturer: National Semiconductor; PackageTopMarking: NSUZXYTTE#*LP38842T*-0.8; PowerWise: N; CompType: LDO IC; High-Reliability: Y; DatasheetVersion: Sep-2006; PackageVersion: revJ, Jan-1992; PackageReference: T05A; PackageDescription: TO-220, Molded, 5 Lead, Straight; RoHS: Y; PinCount: 5; Code_JEDEC: TO-220-AB; ComponentLink1Description: Manufacturer URL; ComponentLink1URL: http://www.national.com/; ComponentLink2Description: LP38842 Datasheet; ComponentLink2URL: http://www.national.com/ds/LP/LP38842.pdf; ComponentLink3Description: LP38842 Web Page; ComponentLink3URL: http://www.national.com/pf/LP/LP38842.html; ComponentLink4Description: T05A Package Page; ComponentLink4URL: http://www.national.com/packaging/folders/t05a.html
footprint T05A (TO, Thru-Hole, Vertical, Heatsink Mounted; 5 In-Line Leads; Pitch 1.70 mm)
pins: 1 ~{SD} (in), 2 IN (power), 3 GND (power), 4 OUT (power), 5 BIAS (in)

## LP38842T-1.2
designator U?
1.5A Ultra Low Dropout Linear Regulators, 5-pin TO-220; PartNumber: LP38842T-1.2; Manufacturer: National Semiconductor; PackageTopMarking: NSUZXYTTE#*LP38842T*-1.2; PowerWise: N; CompType: LDO IC; High-Reliability: Y; DatasheetVersion: Sep-2006; PackageVersion: revJ, Jan-1992; PackageReference: T05A; PackageDescription: TO-220, Molded, 5 Lead, Straight; RoHS: N; PinCount: 5; Code_JEDEC: TO-220-AB; ComponentLink1Description: Manufacturer URL; ComponentLink1URL: http://www.national.com/; ComponentLink2Description: LP38842 Datasheet; ComponentLink2URL: http://www.national.com/ds/LP/LP38842.pdf; ComponentLink3Description: LP38842 Web Page; ComponentLink3URL: http://www.national.com/pf/LP/LP38842.html; ComponentLink4Description: T05A Package Page; ComponentLink4URL: http://www.national.com/packaging/folders/t05a.html
footprint T05A (TO, Thru-Hole, Vertical, Heatsink Mounted; 5 In-Line Leads; Pitch 1.70 mm)
pins: 1 ~{SD} (in), 2 IN (power), 3 GND (power), 4 OUT (power), 5 BIAS (in)

## LP38842T-1.2/NOPB
designator U?
1.5A Ultra Low Dropout Linear Regulators, 5-pin TO-220, Pb-Free; PartNumber: LP38842T-1.2/NOPB; Manufacturer: National Semiconductor; PackageTopMarking: NSUZXYTTE#*LP38842T*-1.2; PowerWise: N; CompType: LDO IC; High-Reliability: Y; DatasheetVersion: Sep-2006; PackageVersion: revJ, Jan-1992; PackageReference: T05A; PackageDescription: TO-220, Molded, 5 Lead, Straight; RoHS: Y; PinCount: 5; Code_JEDEC: TO-220-AB; ComponentLink1Description: Manufacturer URL; ComponentLink1URL: http://www.national.com/; ComponentLink2Description: LP38842 Datasheet; ComponentLink2URL: http://www.national.com/ds/LP/LP38842.pdf; ComponentLink3Description: LP38842 Web Page; ComponentLink3URL: http://www.national.com/pf/LP/LP38842.html; ComponentLink4Description: T05A Package Page; ComponentLink4URL: http://www.national.com/packaging/folders/t05a.html
footprint T05A (TO, Thru-Hole, Vertical, Heatsink Mounted; 5 In-Line Leads; Pitch 1.70 mm)
pins: 1 ~{SD} (in), 2 IN (power), 3 GND (power), 4 OUT (power), 5 BIAS (in)

## LP38842T-1.5
designator U?
1.5A Ultra Low Dropout Linear Regulators, 5-pin TO-220; PartNumber: LP38842T-1.5; Manufacturer: National Semiconductor; PackageTopMarking: NSUZXYTTE#*LP38842T*-1.5; PowerWise: N; CompType: LDO IC; High-Reliability: Y; DatasheetVersion: Sep-2006; PackageVersion: revJ, Jan-1992; PackageReference: T05A; PackageDescription: TO-220, Molded, 5 Lead, Straight; RoHS: N; PinCount: 5; Code_JEDEC: TO-220-AB; ComponentLink1Description: Manufacturer URL; ComponentLink1URL: http://www.national.com/; ComponentLink2Description: LP38842 Datasheet; ComponentLink2URL: http://www.national.com/ds/LP/LP38842.pdf; ComponentLink3Description: LP38842 Web Page; ComponentLink3URL: http://www.national.com/pf/LP/LP38842.html; ComponentLink4Description: T05A Package Page; ComponentLink4URL: http://www.national.com/packaging/folders/t05a.html
footprint T05A (TO, Thru-Hole, Vertical, Heatsink Mounted; 5 In-Line Leads; Pitch 1.70 mm)
pins: 1 ~{SD} (in), 2 IN (power), 3 GND (power), 4 OUT (power), 5 BIAS (in)

## LP38842T-1.5/NOPB
designator U?
1.5A Ultra Low Dropout Linear Regulators, 5-pin TO-220, Pb-Free; PartNumber: LP38842T-1.5/NOPB; Manufacturer: National Semiconductor; PackageTopMarking: NSUZXYTTE#*LP38842T*-1.5; PowerWise: N; CompType: LDO IC; High-Reliability: Y; DatasheetVersion: Sep-2006; PackageVersion: revJ, Jan-1992; PackageReference: T05A; PackageDescription: TO-220, Molded, 5 Lead, Straight; RoHS: Y; PinCount: 5; Code_JEDEC: TO-220-AB; ComponentLink1Description: Manufacturer URL; ComponentLink1URL: http://www.national.com/; ComponentLink2Description: LP38842 Datasheet; ComponentLink2URL: http://www.national.com/ds/LP/LP38842.pdf; ComponentLink3Description: LP38842 Web Page; ComponentLink3URL: http://www.national.com/pf/LP/LP38842.html; ComponentLink4Description: T05A Package Page; ComponentLink4URL: http://www.national.com/packaging/folders/t05a.html
footprint T05A (TO, Thru-Hole, Vertical, Heatsink Mounted; 5 In-Line Leads; Pitch 1.70 mm)
pins: 1 ~{SD} (in), 2 IN (power), 3 GND (power), 4 OUT (power), 5 BIAS (in)

## LP38843S-0.8
designator U?
3A Fast-Response Ultra Low Dropout Linear Regulators, 5-pin TO-263; PartNumber: LP38843S-0.8; Manufacturer: National Semiconductor; PackageTopMarking: NSUZXYTTE#*LP38843S*-0.8; PowerWise: N; CompType: LDO IC; High-Reliability: Y; DatasheetVersion: Sep-2006; PackageVersion: revD, Apr-2005; PackageReference: TS5B; PackageDescription: TO-263, Molded, .400 x .390 x .180in, 5 Lead, .067in Pitch, Surface Mount; RoHS: N; PinCount: 5; Code_JEDEC: MO-169-AB; ComponentLink1Description: Manufacturer URL; ComponentLink1URL: http://www.national.com/; ComponentLink2Description: LP38843 Datasheet; ComponentLink2URL: http://www.national.com/ds/LP/LP38843.pdf; ComponentLink3Description: LP38843 Web Page; ComponentLink3URL: http://www.national.com/pf/LP/LP38843.html; ComponentLink4Description: TS5B Package Page; ComponentLink4URL: http://www.national.com/packaging/folders/ts5b.html
footprint TS5B_N (D2-PAK, 6-Leads, Body 8.6x10.2mm, Pitch 1.7mm, Lead Span 14.1mm, IPC Medium Density)
footprint TS5B_L (D2-PAK, 6-Leads, Body 8.6x10.2mm, Pitch 1.7mm, Lead Span 14.1mm, IPC High Density)
footprint TS5B_M (D2-PAK, 6-Leads, Body 8.6x10.2mm, Pitch 1.7mm, Lead Span 14.1mm, IPC Low Density)
pins: 1 ~{SD} (in), 2 IN (power), 3 GND (power), 4 OUT (power), 5 BIAS (in), 6 TAB (power)

## LP38843S-0.8/NOPB
designator U?
3A Fast-Response Ultra Low Dropout Linear Regulators, 5-pin TO-263, Pb-Free; PartNumber: LP38843S-0.8/NOPB; Manufacturer: National Semiconductor; PackageTopMarking: NSUZXYTTE#*LP38843S*-0.8; PowerWise: N; CompType: LDO IC; High-Reliability: Y; DatasheetVersion: Sep-2006; PackageVersion: revD, Apr-2005; PackageReference: TS5B; PackageDescription: TO-263, Molded, .400 x .390 x .180in, 5 Lead, .067in Pitch, Surface Mount; RoHS: Y; PinCount: 5; Code_JEDEC: MO-169-AB; ComponentLink1Description: Manufacturer URL; ComponentLink1URL: http://www.national.com/; ComponentLink2Description: LP38843 Datasheet; ComponentLink2URL: http://www.national.com/ds/LP/LP38843.pdf; ComponentLink3Description: LP38843 Web Page; ComponentLink3URL: http://www.national.com/pf/LP/LP38843.html; ComponentLink4Description: TS5B Package Page; ComponentLink4URL: http://www.national.com/packaging/folders/ts5b.html
footprint TS5B_N (D2-PAK, 6-Leads, Body 8.6x10.2mm, Pitch 1.7mm, Lead Span 14.1mm, IPC Medium Density)
footprint TS5B_L (D2-PAK, 6-Leads, Body 8.6x10.2mm, Pitch 1.7mm, Lead Span 14.1mm, IPC High Density)
footprint TS5B_M (D2-PAK, 6-Leads, Body 8.6x10.2mm, Pitch 1.7mm, Lead Span 14.1mm, IPC Low Density)
pins: 1 ~{SD} (in), 2 IN (power), 3 GND (power), 4 OUT (power), 5 BIAS (in), 6 TAB (power)

## LP38843S-1.2
designator U?
3A Fast-Response Ultra Low Dropout Linear Regulators, 5-pin TO-263; PartNumber: LP38843S-1.2; Manufacturer: National Semiconductor; PackageTopMarking: NSUZXYTTE#*LP38843S*-1.2; PowerWise: N; CompType: LDO IC; High-Reliability: Y; DatasheetVersion: Sep-2006; PackageVersion: revD, Apr-2005; PackageReference: TS5B; PackageDescription: TO-263, Molded, .400 x .390 x .180in, 5 Lead, .067in Pitch, Surface Mount; RoHS: N; PinCount: 5; Code_JEDEC: MO-169-AB; ComponentLink1Description: Manufacturer URL; ComponentLink1URL: http://www.national.com/; ComponentLink2Description: LP38843 Datasheet; ComponentLink2URL: http://www.national.com/ds/LP/LP38843.pdf; ComponentLink3Description: LP38843 Web Page; ComponentLink3URL: http://www.national.com/pf/LP/LP38843.html; ComponentLink4Description: TS5B Package Page; ComponentLink4URL: http://www.national.com/packaging/folders/ts5b.html
footprint TS5B_N (D2-PAK, 6-Leads, Body 8.6x10.2mm, Pitch 1.7mm, Lead Span 14.1mm, IPC Medium Density)
footprint TS5B_L (D2-PAK, 6-Leads, Body 8.6x10.2mm, Pitch 1.7mm, Lead Span 14.1mm, IPC High Density)
footprint TS5B_M (D2-PAK, 6-Leads, Body 8.6x10.2mm, Pitch 1.7mm, Lead Span 14.1mm, IPC Low Density)
pins: 1 ~{SD} (in), 2 IN (power), 3 GND (power), 4 OUT (power), 5 BIAS (in), 6 TAB (power)

## LP38843S-1.2/NOPB
designator U?
3A Fast-Response Ultra Low Dropout Linear Regulators, 5-pin TO-263, Pb-Free; PartNumber: LP38843S-1.2/NOPB; Manufacturer: National Semiconductor; PackageTopMarking: NSUZXYTTE#*LP38843S*-1.2; PowerWise: N; CompType: LDO IC; High-Reliability: Y; DatasheetVersion: Sep-2006; PackageVersion: revD, Apr-2005; PackageReference: TS5B; PackageDescription: TO-263, Molded, .400 x .390 x .180in, 5 Lead, .067in Pitch, Surface Mount; RoHS: Y; PinCount: 5; Code_JEDEC: MO-169-AB; ComponentLink1Description: Manufacturer URL; ComponentLink1URL: http://www.national.com/; ComponentLink2Description: LP38843 Datasheet; ComponentLink2URL: http://www.national.com/ds/LP/LP38843.pdf; ComponentLink3Description: LP38843 Web Page; ComponentLink3URL: http://www.national.com/pf/LP/LP38843.html; ComponentLink4Description: TS5B Package Page; ComponentLink4URL: http://www.national.com/packaging/folders/ts5b.html
footprint TS5B_N (D2-PAK, 6-Leads, Body 8.6x10.2mm, Pitch 1.7mm, Lead Span 14.1mm, IPC Medium Density)
footprint TS5B_L (D2-PAK, 6-Leads, Body 8.6x10.2mm, Pitch 1.7mm, Lead Span 14.1mm, IPC High Density)
footprint TS5B_M (D2-PAK, 6-Leads, Body 8.6x10.2mm, Pitch 1.7mm, Lead Span 14.1mm, IPC Low Density)
pins: 1 ~{SD} (in), 2 IN (power), 3 GND (power), 4 OUT (power), 5 BIAS (in), 6 TAB (power)